# Altium footprint library WunderBar_v102b.PcbLib: 47 footprints (part 2 of 3)
Each footprint in its own frame and in the unit in brackets; x right, y up, seen from the top. Pads: shape width x height; smd on the part's side, far side on the other; paste and mask are expansions set on the pad; w line width, h text height; cw(c..) or ccw(c..) is an arc to the next point about the centre after c.
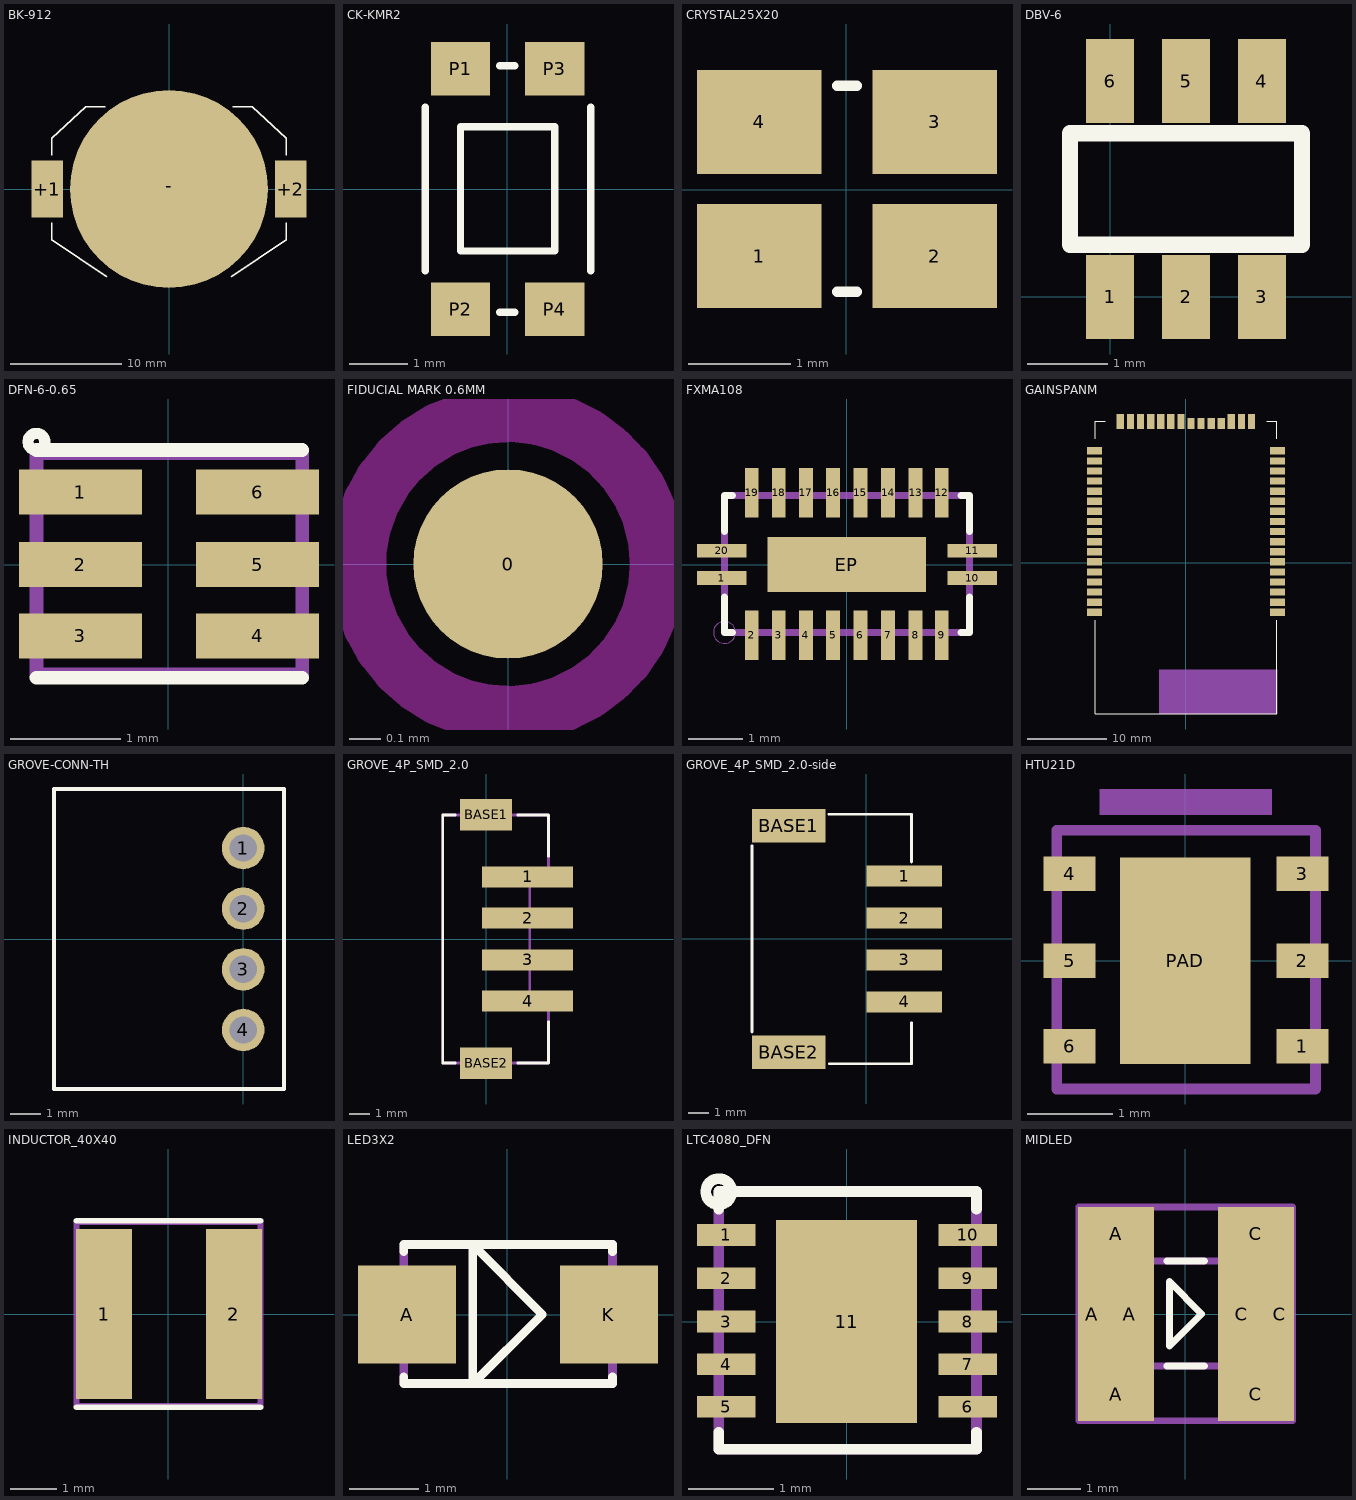
[diagram p1: the footprints below, top view; thin cyan lines are the x and y axes]

## BK-912 [mil] "BK-912"
pads (3):
  rect 110x200 smd: +1(-430,0) +2(430,0)
  rrect100% 700x700 smd paste-708.66: -(0,0)
Top Overlay:
  lines w5: -415,-120 -415,-180 -220,-310 ; -415,120 -415,180 -295,290 -225,290 ; 220,-310 415,-180 415,-120 ; 225,290 295,290 415,180 415,120

## CK-KMR2 [mil] "CK-KMR2"
pads (4):
  rect 40x36 smd: P1(-31.5,81) P2(-31.5,-80.71) P3(32,81) P4(32,-80.71)
Top Overlay:
  lines w5: -55.12,-55 -55.12,55 ; -5,-82.68 5,-82.68 ; -5,83 5,83 ; 56,-55 56,55 ; -31.5,-41.54 32,-41.54 32,42 -31.5,42 -31.5,-41.54

## CRYSTAL25X20 [mil] "CRYSTAL25X20"
pads (4):
  rect 48x40 smd: 1(-33.46,-25.59) 2(34,-25.59) 3(34,26) 4(-33.46,26)
Top Overlay:
  lines w4: -3.54,-39.37 4,-39.37 ; -3.54,40 4,40

## DBV-6 [mm]
pads (6):
  rect 0.6x1.05 smd: 1(0,0) 2(0.95,0) 3(1.9,0) 4(1.9,2.7) 5(0.95,2.7) 6(0,2.7)
Top Overlay:
  lines w0.203: -0.5,0.652 -0.5,2.048 -0.483,2.048 2.4,2.048 2.4,0.652 -0.5,0.652

## DFN-6-0.65 [mil] "DFN-6-0.65"
pads (6):
  rect 44x16 smd: 1(-31.5,26) 2(-31.5,0) 3(-31.5,-25.59) 4(32,-25.59) 5(32,0) 6(32,26)
Top Overlay:
  circle w4: c-47.24,44 r3
  lines w5: -47.24,-40.55 48,-40.55 ; -47.24,41 48,41
Mechanical 16:
  lines w5: -47.24,-39.37 48,-39.37 48,40 -47.24,40 -47.24,-39.37

## FIDUCIAL MARK 0.6MM [mm]
pads (1):
  round 0.6 smd paste-0.6 mask+0.4: 0(0,0)
Top Layer keep-out:
  circle w0.178: c0,0 r0.475

## FXMA108 [mil] "FXMA108"
pads (21):
  rect 36x10 smd mask+3: 1(-90.55,-9.84) 10(91,-9.84) 11(91,10) 20(-90.55,10)
  rect 10x36 smd mask+3: 2(-68.9,-51.18) 3(-49.21,-51.18) 4(-29.53,-51.18) 5(-9.84,-51.18) 6(10,-51.18) 7(30,-51.18) 8(50,-51.18) 9(69,-51.18) 12(69,52) 13(50,52) 14(30,52) 15(10,52) 16(-9.84,52) 17(-29.53,52) 18(-49.21,52) 19(-68.9,52)
  rect 115x40 smd mask+3: EP(0,0)
Top Overlay:
  lines w5: -88.58,-23.62 -88.58,-49.21 -82.68,-49.21 ; -88.58,24 -88.58,50 -82.68,50 ; 83,-49.21 89,-49.21 89,-23.62 ; 83,50 89,50 89,24
Mechanical 16:
  circle w0: c-88.58,-49.21 r8
  lines w5: -88.58,-49.21 -88.58,50 89,50 89,-49.21 -88.58,-49.21

## GAINSPANM [mil] "GAINSPANM"
pads (48):
  rect 75x36 smd: 1(453,-246) 2(453,-196) 3(453,-146) 4(453,-96) 5(453,-46) 6(453,4) 7(453,54) 8(453,104) 9(453,154) 10(453,204) 11(453,254) 12(453,304) 13(453,354) 14(453,404) 15(453,454) 16(453,504) 17(453,554) 32(-452.5,554) 33(-452.5,504) 34(-452.5,454) 35(-452.5,404) 36(-452.5,354) 37(-452.5,304) 38(-452.5,254) 39(-452.5,204) 40(-452.5,154) 41(-452.5,104) 42(-452.5,54) 43(-452.5,4) 44(-452.5,-46) 45(-452.5,-96) 46(-452.5,-146) 47(-452.5,-196) 48(-452.5,-246)
  rect 36x75 smd: 18(325,699) 19(275,699) 20(225,699) 25(-25,699) 26(-75,699) 27(-125,699) 28(-175,699) 29(-225,699) 30(-275,699) 31(-325,699)
  rect 36x55.12 smd: 21(175,689.06) 22(125,689.06) 23(75,689.06) 24(25,689.06)
Top Overlay:
  lines w5: -450,-286 -450,-750 450,-750 450,-286 ; -450,614 -450,700 -400,700 ; 400,700 450,700 450,614
Mechanical 9:
  rectangle: -133.5,-750 453,-530

## GROVE-CONN-TH [mm] "S4B-PH-SM4-KL(LF)(SN)"
pads (4):
  round 1.4 hole 0.9: 1(0,3) 2(0,1) 3(0,-1) 4(0,-3)
Top Overlay:
  lines w0.127: -6.25,-4.95 -6.25,4.95 1.35,4.95 1.35,-4.95 -6.25,-4.95

## GROVE_4P_SMD_2.0 [mil] "GROVE_4P_SMD_2.0"
pads (6):
  rect 174x40 smd: 1(79,119) 2(79,40) 3(79,-39.37) 4(79,-118.11)
  rect 99x60 smd: BASE1(0,237) BASE2(0,-236.22)
Top Overlay:
  lines w5: -59.06,-236.22 -82.68,-236.22 -82.68,237 -59.06,237 ; 60,-236.22 119,-236.22 119,-157.48 ; 60,237 119,237 119,158
Mechanical 16:
  lines w5: -82.68,-236.22 119,-236.22 119,-133.86 83,-133.86 83,134 119,134 119,237 -82.68,237 -82.68,-236.22

## GROVE_4P_SMD_2.0-side [mm] "S4B-PH-SM4-TB(LF)(SN)"
pads (6):
  rect 3.6x1 smd: 1(1.8,3) 2(1.8,1) 3(1.8,-1) 4(1.8,-3)
  rect 3.5x1.6 smd: BASE1(-3.7,5.4) BASE2(-3.7,-5.4)
Top Overlay:
  lines w0.127: -5.45,-4.43 -5.45,4.438 ; -1.782,5.95 1.524,5.95 2.15,5.95 2.15,3.668 ; -1.779,-5.95 1.524,-5.95 2.15,-5.95 2.15,-4

## HTU21D [mil] "HTU21D"
pads (7):
  rect 24x16 smd: 1(54,-39.37) 2(54,0) 3(54,40) 4(-53.15,40) 5(-53.15,0) 6(-53.15,-39.37)
  rect 60x95 smd: PAD(0,0)
Mechanical 16:
  rectangle: -39.37,67 40,79
  lines w5: -59.06,-59.06 60,-59.06 60,60 -59.06,60 -59.06,-59.06

## INDUCTOR_40X40 [mil] "INDUCTOR_40X40"
pads (2):
  rect 48x146 smd: 1(-55.12,0) 2(56,0)
Top Overlay:
  lines w5: -78.74,-79.92 79,-79.92 ; -78.74,80 79,80
Mechanical 16:
  lines w5: -78.74,-78.74 -78.74,79 79,79 79,-78.74 -78.74,-78.74

## LED3X2 [mil] "LED3X2"
pads (2):
  rect 56x56 smd: A(-57.09,0) K(58,0)
Top Overlay:
  lines w5: -59.06,-35.43 -59.06,-39.37 -19.68,-39.37 ; -59.06,36 -59.06,40 -19.68,40 ; 60,-35.43 60,-39.37 -19.68,-39.37 ; 60,36 60,40 -19.68,40 ; -19.68,-39.37 -19.68,40 ; -19.68,-39.37 20,0 -19.68,40
Mechanical 16:
  lines w5: -59.06,-39.37 60,-39.37 60,40 -59.06,40 -59.06,-39.37

## LTC4080_DFN [mil] "LTC4080_DFN"
pads (11):
  rect 27x10 smd mask+3: 1(-55.61,40) 2(-55.61,20) 3(-55.61,0) 4(-55.61,-19.68) 5(-55.61,-39.37) 6(56,-39.37) 7(56,-19.68) 8(56,0) 9(56,20) 10(56,40)
  rect 65x94 smd mask+3: 11(0,0)
Top Overlay:
  circle w5: c-59.06,60 r6
  lines w5: -59.06,-51.18 -59.06,-59.06 60,-59.06 60,-51.18 ; -59.06,52 -59.06,60 60,60 60,52
Mechanical 16:
  lines w5: -59.06,-59.06 -59.06,60 60,60 60,-59.06 -59.06,-59.06

## MIDLED [mm] "MIDLED"
pads (8):
  rect 0.522x2.1 smd paste-1.5 mask-1.5: A(-1.75,0) C(1.771,0)
  rect 1.422x1 smd paste-1.5 mask-1.5: A(-1.3,-1.507) A(-1.3,1.507) C(1.321,-1.507) C(1.321,1.507)
  rect 0.9x2.1 smd: A(-1.039,0) C(1.06,0)
Top Overlay:
  lines w0.127: -0.35,-0.975 0.356,-0.975 ; -0.35,0.991 0.356,0.991 ; -0.3,-0.6 0.305,0 -0.3,0.61 -0.3,-0.6
Mechanical 16:
  lines w0.127: -2,-2 -2,2.007 2.007,2.007 2.007,-2 -2,-2 ; -1.16,0.991 -1.15,-0.975 1.168,-0.975 1.168,0.991 -1.16,0.991